# Altium integrated library SR304.IntLib: 1 symbol
Pins are listed as number, name and electrical type; pins without a type are passive.

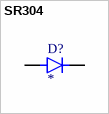
[diagram p0: symbol SR304]

## SR304
designator D?
3A, 40V, Schottky Rectifier; MF: Taiwan Semiconductor; MP: SR304; SnapEDA_Link: https://www.snapeda.com/parts/SR304/Taiwan+Semiconductor/view-part/?ref=snap; Package: DO-201AD Taiwan Semiconductor; Value: *; Check_prices: https://www.snapeda.com/parts/SR304/Taiwan+Semiconductor/view-part/?ref=eda
footprint DIOAD1990W125L900D530
pins: A, C K